# EAGLE library part JST_6PIN (library isystems-connectors)
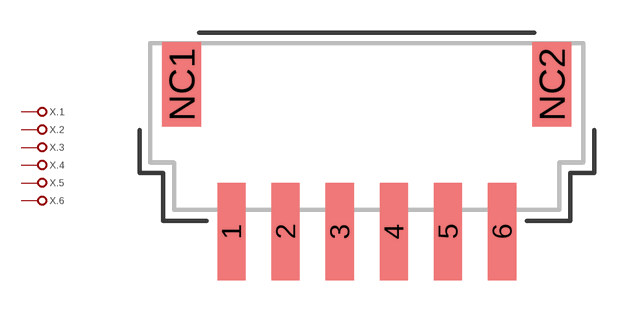
[diagram p0: symbol with the pads of JSTXH6_SMT; footprint JSTXH6_SMT]

Designator prefix X; gates .1=CONX1 .2=CONX1 .3=CONX1 .4=CONX1 .5=CONX1 .6=CONX1

## JST_6PIN_XH_SMT  [JSTXH6_SMT]
1  .1:P
2  .2:P
3  .3:P
4  .4:P
5  .5:P
6  .6:P

## Footprint JSTXH6_SMT (pad centres in mm)
smd 1.3 x 4.5: 1 -6.25,-2.7; 2 -3.75,-2.7; 3 -1.25,-2.7; 4 1.25,-2.7; 5 3.75,-2.7; 6 6.25,-2.7
smd 1.8 x 3.9: NC1 -8.55,4.1; NC2 8.55,4.1